# Altium footprint library MIC841.PcbLib: 2 footprints
Each footprint in its own frame and in the unit in brackets; x right, y up, seen from the top. Pads: shape width x height; smd on the part's side, far side on the other; paste and mask are expansions set on the pad; w line width, h text height; cw(c..) or ccw(c..) is an arc to the next point about the centre after c.
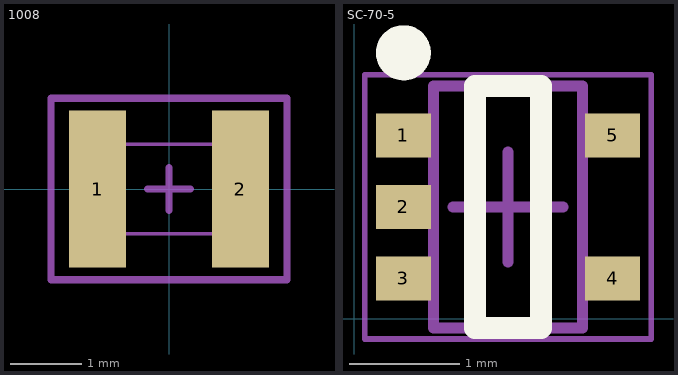
[diagram p0: the footprints below, top view; thin cyan lines are the x and y axes]

## 1008 [mm] "Surface Mount; Body 2.0 x 1.25 mm (LxW typ)"
height 1.25
pads (2):
  rect 0.8x2.2 smd: 1(-1,0) 2(1,0)
Mechanical 13:
  lines w0.051: -1,-0.625 -1,0.625 1,0.625 1,-0.625 -1,-0.625
  text ".Designator" at -0.762,-0.127 h0.38
Mechanical 15:
  lines w0.1: -0.3,0 0.3,0 ; 0,-0.3 0,0.3 ; -1.651,-1.27 -1.651,1.27 1.651,1.27 1.651,-1.27 -1.651,-1.27
3D body: height 1.25, standoff 0, extent -1.397,-1.143 1.397,1.143

## SC-70-5 [mm]
pads (5):
  rect 0.5x0.4 smd: 1(0.447,1.666) 2(0.447,1.016) 3(0.447,0.366) 4(2.347,0.366) 5(2.347,1.666)
Top Overlay:
  circle w0.25: c0.447,2.416 r0.125
  lines w0.2: 1.097,-0.084 1.097,2.116 1.697,2.116 1.697,-0.084 1.097,-0.084
Mechanical 13:
  lines w0.1: 0.722,-0.084 2.072,-0.084 2.072,2.116 0.722,2.116 0.722,-0.084
Mechanical 15:
  lines w0.05: 0.097,-0.184 2.697,-0.184 2.697,2.216 0.097,2.216 0.097,-0.184
  lines w0.1: 0.897,1.016 1.897,1.016 ; 1.397,0.516 1.397,1.516
3D body "SOT65P210X110-6L.step": height 1.1, standoff 0, extent 0.197,-0.084 2.597,2.116